# Altium footprint library CAPAE9083X105M.PcbLib: 1 footprints
Each footprint in its own frame and in the unit in brackets; x right, y up, seen from the top. Pads: shape width x height; smd on the part's side, far side on the other; paste and mask are expansions set on the pad; w line width, h text height; cw(c..) or ccw(c..) is an arc to the next point about the centre after c.
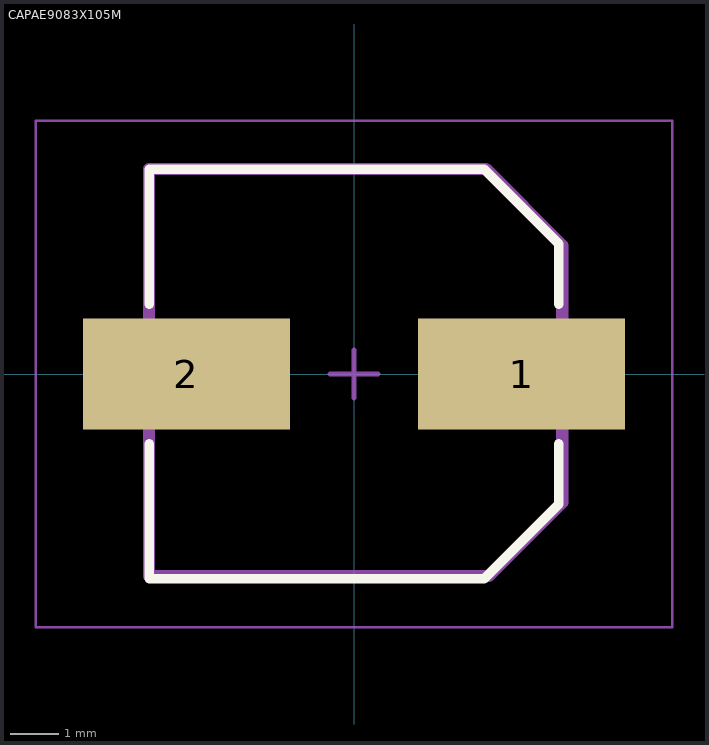
[diagram p0: the footprint, top view; thin cyan lines are the x and y axes]

## CAPAE9083X105M [mm] "Aluminum Electrolytic Capacitor, Body 8,30x8,30x10,50mm, IPC Low Density"
height 10.5
pads (2):
  rect 4.3x2.3 smd: 1(3.475,0) 2(-3.475,0)
Top Overlay:
  lines w0.2: -4.25,-1.45 -4.25,-4.25 2.7,-4.25 4.25,-2.7 4.25,-1.45 ; -4.25,1.45 -4.25,4.25 2.7,4.25 4.25,2.7 4.25,1.45
Mechanical 5:
  lines w0.254: -4.25,-4.191 2.794,-4.191 4.318,-2.667 4.318,-1.397 4.318,2.667 2.735,4.25 -4.25,4.25 -4.25,-4.191
  text ".Designator" at -5.283,-0.762 h1.02
Mechanical 13:
  lines w0.1: -4.25,-4.25 2.7,-4.25 4.25,-2.7 4.25,2.7 2.7,4.25 -4.25,4.25 -4.25,-4.25
Mechanical 15:
  lines w0.05: -6.6,-5.25 -6.6,5.25 6.6,5.25 6.6,-5.25 -6.6,-5.25
  lines w0.1: -0.5,0 0.5,0 ; 0,-0.5 0,0.5
3D body: height 3.5, standoff 0, extent -4.25,-4.25 4.25,4.25
3D body: height 10.5, standoff 0, extent -4,-4 4,3.994